# Altium integrated library Maxim Digital Potentiometers.IntLib: 1045 symbols (part 18 of 42)
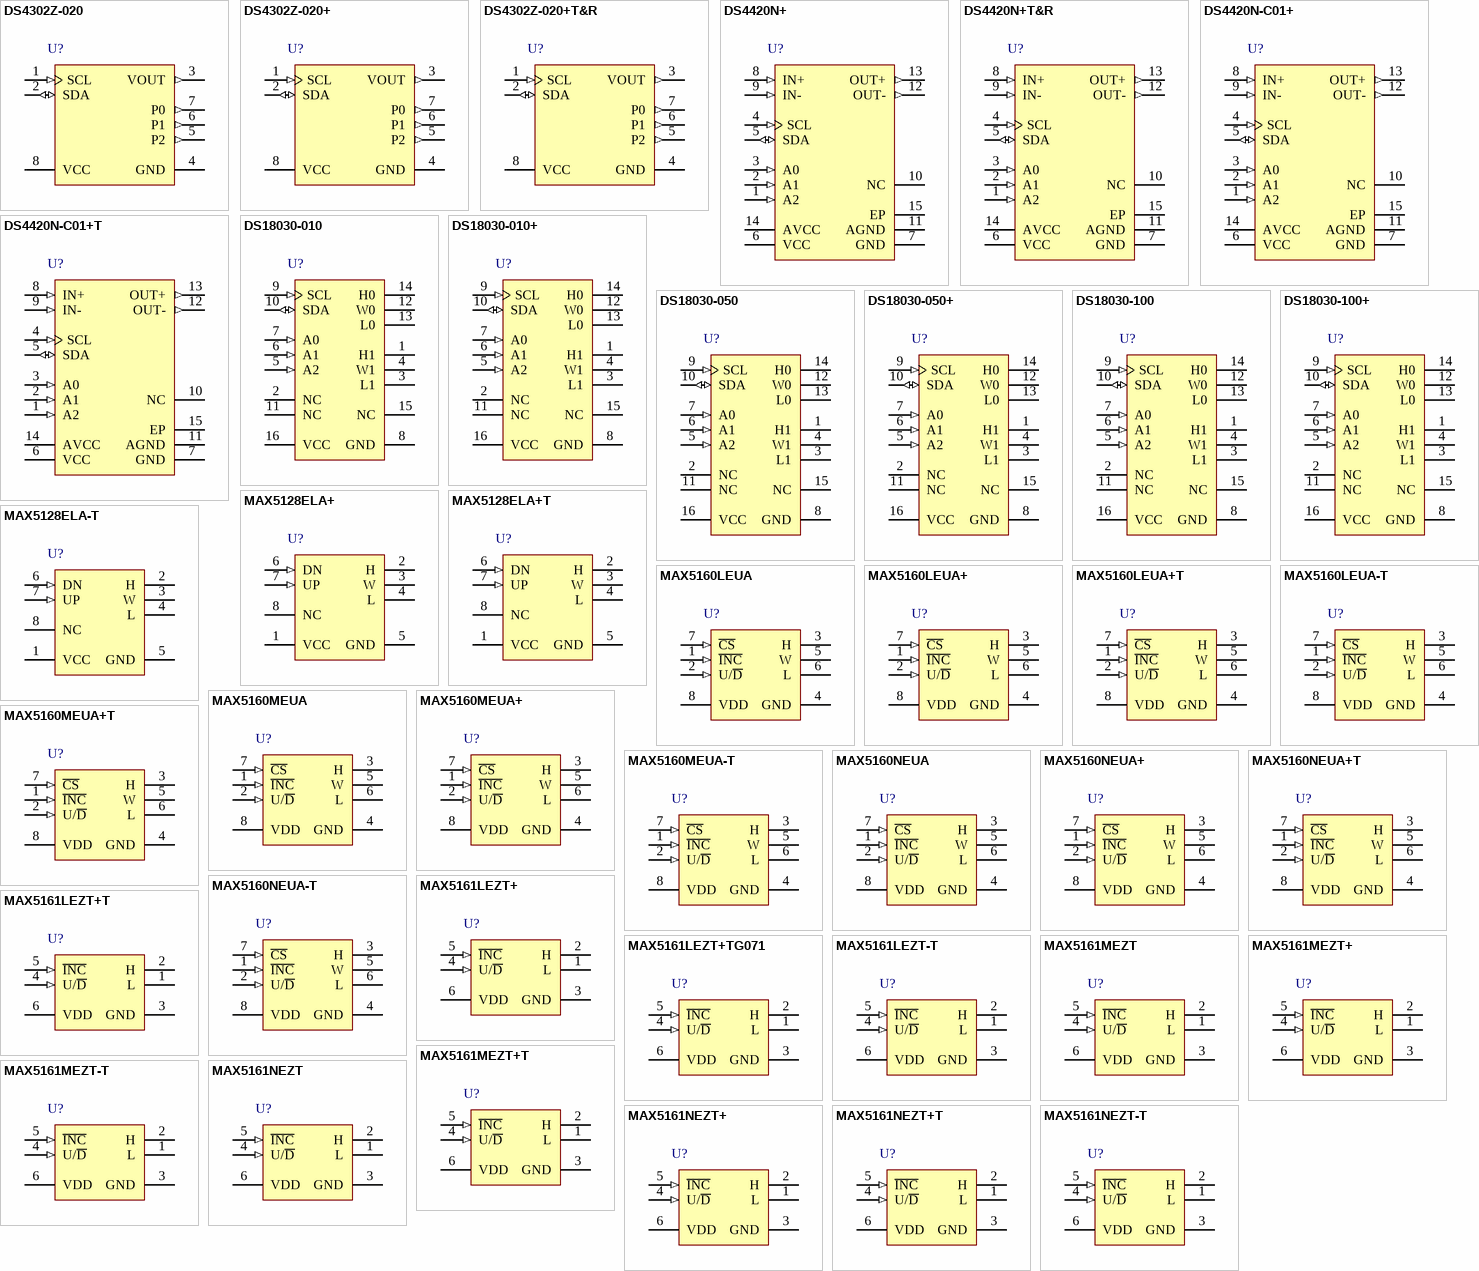
[diagram p46: symbols DS4302Z-020 to MAX5161NEZT-T]

## MAX5160NEUA
designator U?
Low-Power Digital Potentiometer with 3-Wire Serial Control Interface, Volatile, Linear Taper, 32 Steps, -40 to 85 degC, 8-pin uMAX (U8-1); PartNumber: MAX5160NEUA; DatasheetVersion: Rev. 2A; PackageVersion: Rev. L, 08/2009; PackageReference: U8-1; PackageDescription: 8-Pin Micro-MAX, Thin Shrink Small-Outline (U8-1), Body 3 x 3 mm, Pitch 0.65mm; Supplier 1: Mouser; Supplier Part Number 1: N/A; Control Interface: 3-Wire Serial; Mounting Technology: Surface Mount; Code_JEDEC: MO-187; ComponentLink1Description: Manufacturer URL; ComponentLink1URL: http://www.maximintegrated.com/; ComponentLink2Description: Datasheet; ComponentLink2URL: http://datasheets.maximintegrated.com/en/ds/MAX5160-MAX5161.pdf; ComponentLink3Description: Package Specification; ComponentLink3URL: http://pdfserv.maximintegrated.com/package_dwgs/21-0036.PDF
footprint MAXM-U8-1_N (SOP, 8-Leads, Body 3x3mm, Pitch 0.65mm, IPC Medium Density)
footprint MAXM-U8-1_L (SOP, 8-Leads, Body 3x3mm, Pitch 0.65mm, IPC High Density)
footprint MAXM-U8-1_M (SOP, 8-Leads, Body 3x3mm, Pitch 0.65mm, IPC Low Density)
pins: 1 ~{INC} (in) "Wiper Increment Control Input. With C\S\ low, a high-to-low transition increments (U/D\ high) or decrements (U/D\ low) the wiper position.", 2 U/~{D} (in) "Up/Down Control Input. With C\S\ low, a high-to-low I\N\C\ transition increments (U/D\ high) or decrements (U/D\ low) the wiper position.", 3 H "High Terminal of Resistor", 4 GND (power) "Ground", 5 W "Wiper Terminal of Resistor", 6 L "Low Terminal of Resistor.", 7 ~{CS} (in) "Chip-Select Input. Drive low to change wiper position through I\N\C\ and U/D\.", 8 VDD (power) "Power Supply."

## MAX5160NEUA+
designator U?
Low-Power Digital Potentiometer with 3-Wire Serial Control Interface, Volatile, Linear Taper, 32 Steps, -40 to 85 degC, 8-pin uMAX (U8+1), Pb-Free; PartNumber: MAX5160NEUA+; DatasheetVersion: Rev. 2A; PackageVersion: Rev. L, 08/2009; PackageReference: U8+1; PackageDescription: 8-Pin Micro-MAX, Thin Shrink Small-Outline (U8+1), Body 3 x 3 mm, Pitch 0.65 mm; Supplier 1: Digi-Key; Supplier Part Number 1: MAX5160NEUA+-ND; Supplier 2: Mouser; Supplier Part Number 2: 700-MAX5160NEUA; Control Interface: 3-Wire Serial; Mounting Technology: Surface Mount; Code_JEDEC: MO-187; ComponentLink1Description: Manufacturer URL; ComponentLink1URL: http://www.maximintegrated.com/; ComponentLink2Description: Datasheet; ComponentLink2URL: http://datasheets.maximintegrated.com/en/ds/MAX5160-MAX5161.pdf; ComponentLink3Description: Package Specification; ComponentLink3URL: http://pdfserv.maximintegrated.com/package_dwgs/21-0036.PDF
footprint MAXM-U8+1_N (SOP, 8-Leads, Body 3x3mm, Pitch 0.65mm, IPC Medium Density)
footprint MAXM-U8+1_L (SOP, 8-Leads, Body 3x3mm, Pitch 0.65mm, IPC High Density)
footprint MAXM-U8+1_M (SOP, 8-Leads, Body 3x3mm, Pitch 0.65mm, IPC Low Density)
pins: 1 ~{INC} (in) "Wiper Increment Control Input. With C\S\ low, a high-to-low transition increments (U/D\ high) or decrements (U/D\ low) the wiper position.", 2 U/~{D} (in) "Up/Down Control Input. With C\S\ low, a high-to-low I\N\C\ transition increments (U/D\ high) or decrements (U/D\ low) the wiper position.", 3 H "High Terminal of Resistor", 4 GND (power) "Ground", 5 W "Wiper Terminal of Resistor", 6 L "Low Terminal of Resistor.", 7 ~{CS} (in) "Chip-Select Input. Drive low to change wiper position through I\N\C\ and U/D\.", 8 VDD (power) "Power Supply."

## MAX5160NEUA+T
designator U?
Low-Power Digital Potentiometer with 3-Wire Serial Control Interface, Volatile, Linear Taper, 32 Steps, -40 to 85 degC, 8-pin uMAX (U8+1), Pb-Free, Tape and Reel; PartNumber: MAX5160NEUA+T; DatasheetVersion: Rev. 2A; PackageVersion: Rev. L, 08/2009; PackageReference: U8+1; PackageDescription: 8-Pin Micro-MAX, Thin Shrink Small-Outline (U8+1), Body 3 x 3 mm, Pitch 0.65 mm; Supplier 1: Digi-Key; Supplier Part Number 1: MAX5160NEUA+T-ND; Supplier 2: Mouser; Supplier Part Number 2: 700-MAX5160NEUAT; Control Interface: 3-Wire Serial; Mounting Technology: Surface Mount; Code_JEDEC: MO-187; ComponentLink1Description: Manufacturer URL; ComponentLink1URL: http://www.maximintegrated.com/; ComponentLink2Description: Datasheet; ComponentLink2URL: http://datasheets.maximintegrated.com/en/ds/MAX5160-MAX5161.pdf; ComponentLink3Description: Package Specification; ComponentLink3URL: http://pdfserv.maximintegrated.com/package_dwgs/21-0036.PDF
footprint MAXM-U8+1_N (SOP, 8-Leads, Body 3x3mm, Pitch 0.65mm, IPC Medium Density)
footprint MAXM-U8+1_L (SOP, 8-Leads, Body 3x3mm, Pitch 0.65mm, IPC High Density)
footprint MAXM-U8+1_M (SOP, 8-Leads, Body 3x3mm, Pitch 0.65mm, IPC Low Density)
pins: 1 ~{INC} (in) "Wiper Increment Control Input. With C\S\ low, a high-to-low transition increments (U/D\ high) or decrements (U/D\ low) the wiper position.", 2 U/~{D} (in) "Up/Down Control Input. With C\S\ low, a high-to-low I\N\C\ transition increments (U/D\ high) or decrements (U/D\ low) the wiper position.", 3 H "High Terminal of Resistor", 4 GND (power) "Ground", 5 W "Wiper Terminal of Resistor", 6 L "Low Terminal of Resistor.", 7 ~{CS} (in) "Chip-Select Input. Drive low to change wiper position through I\N\C\ and U/D\.", 8 VDD (power) "Power Supply."

## MAX5160NEUA-T
designator U?
Low-Power Digital Potentiometer with 3-Wire Serial Control Interface, Volatile, Linear Taper, 32 Steps, -40 to 85 degC, 8-pin uMAX (U8-1), Tape and Reel; PartNumber: MAX5160NEUA-T; DatasheetVersion: Rev. 2A; PackageVersion: Rev. L, 08/2009; PackageReference: U8-1; PackageDescription: 8-Pin Micro-MAX, Thin Shrink Small-Outline (U8-1), Body 3 x 3 mm, Pitch 0.65mm; Supplier 1: Mouser; Supplier Part Number 1: N/A; Control Interface: 3-Wire Serial; Mounting Technology: Surface Mount; Code_JEDEC: MO-187; ComponentLink1Description: Manufacturer URL; ComponentLink1URL: http://www.maximintegrated.com/; ComponentLink2Description: Datasheet; ComponentLink2URL: http://datasheets.maximintegrated.com/en/ds/MAX5160-MAX5161.pdf; ComponentLink3Description: Package Specification; ComponentLink3URL: http://pdfserv.maximintegrated.com/package_dwgs/21-0036.PDF
footprint MAXM-U8-1_N (SOP, 8-Leads, Body 3x3mm, Pitch 0.65mm, IPC Medium Density)
footprint MAXM-U8-1_L (SOP, 8-Leads, Body 3x3mm, Pitch 0.65mm, IPC High Density)
footprint MAXM-U8-1_M (SOP, 8-Leads, Body 3x3mm, Pitch 0.65mm, IPC Low Density)
pins: 1 ~{INC} (in) "Wiper Increment Control Input. With C\S\ low, a high-to-low transition increments (U/D\ high) or decrements (U/D\ low) the wiper position.", 2 U/~{D} (in) "Up/Down Control Input. With C\S\ low, a high-to-low I\N\C\ transition increments (U/D\ high) or decrements (U/D\ low) the wiper position.", 3 H "High Terminal of Resistor", 4 GND (power) "Ground", 5 W "Wiper Terminal of Resistor", 6 L "Low Terminal of Resistor.", 7 ~{CS} (in) "Chip-Select Input. Drive low to change wiper position through I\N\C\ and U/D\.", 8 VDD (power) "Power Supply."

## MAX5161LEZT+
designator U?
Low-Power, Digital Potentiometer with 3-Wire Serial Control Interface, Volatile, Linear Taper, 32 Steps, -40 to 85 degC, 6-pin TSOT (Z6+2), Pb-Free; PartNumber: MAX5161LEZT+; DatasheetVersion: Rev. 2A; PackageVersion: Rev. D, 05/2011; PackageReference: Z6+2; PackageDescription: 6-Pin Thin Small-Outline Transistor (Z6+2), Body 2.9 x 1.6 mm, Pitch 0.95 mm; Supplier 1: Mouser; Supplier Part Number 1: N/A; Control Interface: 3-Wire Serial; Mounting Technology: Surface Mount; Code_JEDEC: MO-193; ComponentLink1Description: Manufacturer URL; ComponentLink1URL: http://www.maximintegrated.com/; ComponentLink2Description: Datasheet; ComponentLink2URL: http://datasheets.maximintegrated.com/en/ds/MAX5160-MAX5161.pdf; ComponentLink3Description: Package Specification; ComponentLink3URL: http://pdfserv.maximintegrated.com/package_dwgs/21-0114.PDF
footprint MAXM-Z6+2_N (SOT23, 6-Leads, Body 2.9x1.6mm, Pitch 0.95mm, IPC Medium Density)
footprint MAXM-Z6+2_L (SOT23, 6-Leads, Body 2.9x1.6mm, Pitch 0.95mm, IPC High Density)
footprint MAXM-Z6+2_M (SOT23, 6-Leads, Body 2.9x1.6mm, Pitch 0.95mm, IPC Low Density)
pins: 1 L "Low Terminal of Resistor", 2 H "High Terminal of Resistor", 3 GND (power) "Ground", 4 U/~{D} (in) "Up/Down Control Input. With C\S\ low, a high-to-low I\N\C\ transition increments (U/D\ high) or decrements (U/D\ low) the wiper position.", 5 ~{INC} (in) "Wiper Increment Control Input. With C\S\ low, a high-to-low transition increments (U/D\ high) or decrements (U/D\ low) the wiper position.", 6 VDD (power) "Power Supply"

## MAX5161LEZT+T
designator U?
Low-Power, Digital Potentiometer with 3-Wire Serial Control Interface, Volatile, Linear Taper, 32 Steps, -40 to 85 degC, 6-pin TSOT (Z6+2), Pb-Free, Tape and Reel; PartNumber: MAX5161LEZT+T; DatasheetVersion: Rev. 2A; PackageVersion: Rev. D, 05/2011; PackageReference: Z6+2; PackageDescription: 6-Pin Thin Small-Outline Transistor (Z6+2), Body 2.9 x 1.6 mm, Pitch 0.95 mm; Supplier 1: Digi-Key; Supplier Part Number 1: MAX5161LEZT+TTR-ND; Supplier 2: Digi-Key; Supplier Part Number 2: MAX5161LEZT+TCT-ND; Supplier 3: Digi-Key; Supplier Part Number 3: MAX5161LEZT+TDKR-ND; Supplier 4: Mouser; Supplier Part Number 4: 700-MAX5161LEZTT; Control Interface: 3-Wire Serial; Mounting Technology: Surface Mount; Code_JEDEC: MO-193; ComponentLink1Description: Manufacturer URL; ComponentLink1URL: http://www.maximintegrated.com/; ComponentLink2Description: Datasheet; ComponentLink2URL: http://datasheets.maximintegrated.com/en/ds/MAX5160-MAX5161.pdf; ComponentLink3Description: Package Specification; ComponentLink3URL: http://pdfserv.maximintegrated.com/package_dwgs/21-0114.PDF
footprint MAXM-Z6+2_N (SOT23, 6-Leads, Body 2.9x1.6mm, Pitch 0.95mm, IPC Medium Density)
footprint MAXM-Z6+2_L (SOT23, 6-Leads, Body 2.9x1.6mm, Pitch 0.95mm, IPC High Density)
footprint MAXM-Z6+2_M (SOT23, 6-Leads, Body 2.9x1.6mm, Pitch 0.95mm, IPC Low Density)
pins: 1 L "Low Terminal of Resistor", 2 H "High Terminal of Resistor", 3 GND (power) "Ground", 4 U/~{D} (in) "Up/Down Control Input. With C\S\ low, a high-to-low I\N\C\ transition increments (U/D\ high) or decrements (U/D\ low) the wiper position.", 5 ~{INC} (in) "Wiper Increment Control Input. With C\S\ low, a high-to-low transition increments (U/D\ high) or decrements (U/D\ low) the wiper position.", 6 VDD (power) "Power Supply"

## MAX5161LEZT+TG071
designator U?
Low-Power, Digital Potentiometer with 3-Wire Serial Control Interface, Volatile, Linear Taper, 32 Steps, -40 to 85 degC, 6-pin TSOT (Z6+2), Pb-Free, Tape and Reel; PartNumber: MAX5161LEZT+TG071; DatasheetVersion: Rev. 2A; PackageVersion: Rev. D, 05/2011; PackageReference: Z6+2; PackageDescription: 6-Pin Thin Small-Outline Transistor (Z6+2), Body 2.9 x 1.6 mm, Pitch 0.95 mm; Supplier 1: Digi-Key; Supplier Part Number 1: MAX5161LEZT+TG071-ND; Supplier 2: Mouser; Supplier Part Number 2: 700-5161LEZT+TG071; Control Interface: 3-Wire Serial; Mounting Technology: Surface Mount; Code_JEDEC: MO-193; ComponentLink1Description: Manufacturer URL; ComponentLink1URL: http://www.maximintegrated.com/; ComponentLink2Description: Datasheet; ComponentLink2URL: http://datasheets.maximintegrated.com/en/ds/MAX5160-MAX5161.pdf; ComponentLink3Description: Package Specification; ComponentLink3URL: http://pdfserv.maximintegrated.com/package_dwgs/21-0114.PDF
footprint MAXM-Z6+2_N (SOT23, 6-Leads, Body 2.9x1.6mm, Pitch 0.95mm, IPC Medium Density)
footprint MAXM-Z6+2_L (SOT23, 6-Leads, Body 2.9x1.6mm, Pitch 0.95mm, IPC High Density)
footprint MAXM-Z6+2_M (SOT23, 6-Leads, Body 2.9x1.6mm, Pitch 0.95mm, IPC Low Density)
pins: 1 L "Low Terminal of Resistor", 2 H "High Terminal of Resistor", 3 GND (power) "Ground", 4 U/~{D} (in) "Up/Down Control Input. With C\S\ low, a high-to-low I\N\C\ transition increments (U/D\ high) or decrements (U/D\ low) the wiper position.", 5 ~{INC} (in) "Wiper Increment Control Input. With C\S\ low, a high-to-low transition increments (U/D\ high) or decrements (U/D\ low) the wiper position.", 6 VDD (power) "Power Supply"

## MAX5161LEZT-T
designator U?
Low-Power, Digital Potentiometer with 3-Wire Serial Control Interface, Volatile, Linear Taper, 32 Steps, -40 to 85 degC, 6-pin TSOT (Z6-2), Tape and Reel; PartNumber: MAX5161LEZT-T; DatasheetVersion: Rev. 2A; PackageVersion: Rev. D, 05/2011; PackageReference: Z6-2; PackageDescription: 6-Pin Thin Small-Outline Transistor (Z6-2), Body 2.9 x 1.6 mm, Pitch 0.95 mm; Supplier 1: Mouser; Supplier Part Number 1: N/A; Control Interface: 3-Wire Serial; Mounting Technology: Surface Mount; Code_JEDEC: MO-193; ComponentLink1Description: Manufacturer URL; ComponentLink1URL: http://www.maximintegrated.com/; ComponentLink2Description: Datasheet; ComponentLink2URL: http://datasheets.maximintegrated.com/en/ds/MAX5160-MAX5161.pdf; ComponentLink3Description: Package Specification; ComponentLink3URL: http://pdfserv.maximintegrated.com/package_dwgs/21-0114.PDF
footprint MAXM-Z6-2_N (SOT23, 6-Leads, Body 2.9x1.6mm, Pitch 0.95mm, IPC Medium Density)
footprint MAXM-Z6-2_L (SOT23, 6-Leads, Body 2.9x1.6mm, Pitch 0.95mm, IPC High Density)
footprint MAXM-Z6-2_M (SOT23, 6-Leads, Body 2.9x1.6mm, Pitch 0.95mm, IPC Low Density)
pins: 1 L "Low Terminal of Resistor", 2 H "High Terminal of Resistor", 3 GND (power) "Ground", 4 U/~{D} (in) "Up/Down Control Input. With C\S\ low, a high-to-low I\N\C\ transition increments (U/D\ high) or decrements (U/D\ low) the wiper position.", 5 ~{INC} (in) "Wiper Increment Control Input. With C\S\ low, a high-to-low transition increments (U/D\ high) or decrements (U/D\ low) the wiper position.", 6 VDD (power) "Power Supply"

## MAX5161MEZT
designator U?
Low-Power, Digital Potentiometer with 3-Wire Serial Control Interface, Volatile, Linear Taper, 32 Steps, -40 to 85 degC, 6-pin TSOT (Z6-2); PartNumber: MAX5161MEZT; DatasheetVersion: Rev. 2A; PackageVersion: Rev. D, 05/2011; PackageReference: Z6-2; PackageDescription: 6-Pin Thin Small-Outline Transistor (Z6-2), Body 2.9 x 1.6 mm, Pitch 0.95 mm; Supplier 1: Mouser; Supplier Part Number 1: N/A; Control Interface: 3-Wire Serial; Mounting Technology: Surface Mount; Code_JEDEC: MO-193; ComponentLink1Description: Manufacturer URL; ComponentLink1URL: http://www.maximintegrated.com/; ComponentLink2Description: Datasheet; ComponentLink2URL: http://datasheets.maximintegrated.com/en/ds/MAX5160-MAX5161.pdf; ComponentLink3Description: Package Specification; ComponentLink3URL: http://pdfserv.maximintegrated.com/package_dwgs/21-0114.PDF
footprint MAXM-Z6-2_N (SOT23, 6-Leads, Body 2.9x1.6mm, Pitch 0.95mm, IPC Medium Density)
footprint MAXM-Z6-2_L (SOT23, 6-Leads, Body 2.9x1.6mm, Pitch 0.95mm, IPC High Density)
footprint MAXM-Z6-2_M (SOT23, 6-Leads, Body 2.9x1.6mm, Pitch 0.95mm, IPC Low Density)
pins: 1 L "Low Terminal of Resistor", 2 H "High Terminal of Resistor", 3 GND (power) "Ground", 4 U/~{D} (in) "Up/Down Control Input. With C\S\ low, a high-to-low I\N\C\ transition increments (U/D\ high) or decrements (U/D\ low) the wiper position.", 5 ~{INC} (in) "Wiper Increment Control Input. With C\S\ low, a high-to-low transition increments (U/D\ high) or decrements (U/D\ low) the wiper position.", 6 VDD (power) "Power Supply"

## MAX5161MEZT+
designator U?
Low-Power, Digital Potentiometer with 3-Wire Serial Control Interface, Volatile, Linear Taper, 32 Steps, -40 to 85 degC, 6-pin TSOT (Z6+2), Pb-Free,; PartNumber: MAX5161MEZT+; DatasheetVersion: Rev. 2A; PackageVersion: Rev. D, 05/2011; PackageReference: Z6+2; PackageDescription: 6-Pin Thin Small-Outline Transistor (Z6+2), Body 2.9 x 1.6 mm, Pitch 0.95 mm; Control Interface: 3-Wire Serial; Mounting Technology: Surface Mount; Code_JEDEC: MO-193; ComponentLink1Description: Manufacturer URL; ComponentLink1URL: http://www.maximintegrated.com/; ComponentLink2Description: Datasheet; ComponentLink2URL: http://datasheets.maximintegrated.com/en/ds/MAX5160-MAX5161.pdf; ComponentLink3Description: Package Specification; ComponentLink3URL: http://pdfserv.maximintegrated.com/package_dwgs/21-0114.PDF
footprint MAXM-Z6+2_N (SOT23, 6-Leads, Body 2.9x1.6mm, Pitch 0.95mm, IPC Medium Density)
footprint MAXM-Z6+2_L (SOT23, 6-Leads, Body 2.9x1.6mm, Pitch 0.95mm, IPC High Density)
footprint MAXM-Z6+2_M (SOT23, 6-Leads, Body 2.9x1.6mm, Pitch 0.95mm, IPC Low Density)
pins: 1 L "Low Terminal of Resistor", 2 H "High Terminal of Resistor", 3 GND (power) "Ground", 4 U/~{D} (in) "Up/Down Control Input. With C\S\ low, a high-to-low I\N\C\ transition increments (U/D\ high) or decrements (U/D\ low) the wiper position.", 5 ~{INC} (in) "Wiper Increment Control Input. With C\S\ low, a high-to-low transition increments (U/D\ high) or decrements (U/D\ low) the wiper position.", 6 VDD (power) "Power Supply"

## MAX5161MEZT+T
designator U?
Low-Power, Digital Potentiometer with 3-Wire Serial Control Interface, Volatile, Linear Taper, 32 Steps, -40 to 85 degC, 6-pin TSOT (Z6+2), Pb-Free, Tape and Reel; PartNumber: MAX5161MEZT+T; DatasheetVersion: Rev. 2A; PackageVersion: Rev. D, 05/2011; PackageReference: Z6+2; PackageDescription: 6-Pin Thin Small-Outline Transistor (Z6+2), Body 2.9 x 1.6 mm, Pitch 0.95 mm; Supplier 1: Digi-Key; Supplier Part Number 1: MAX5161MEZT+TTR-ND; Supplier 2: Digi-Key; Supplier Part Number 2: MAX5161MEZT+TCT-ND; Supplier 3: Digi-Key; Supplier Part Number 3: MAX5161MEZT+TDKR-ND; Supplier 4: Mouser; Supplier Part Number 4: 700-MAX5161MEZTT; Control Interface: 3-Wire Serial; Mounting Technology: Surface Mount; Code_JEDEC: MO-193; ComponentLink1Description: Manufacturer URL; ComponentLink1URL: http://www.maximintegrated.com/; ComponentLink2Description: Datasheet; ComponentLink2URL: http://datasheets.maximintegrated.com/en/ds/MAX5160-MAX5161.pdf; ComponentLink3Description: Package Specification; ComponentLink3URL: http://pdfserv.maximintegrated.com/package_dwgs/21-0114.PDF
footprint MAXM-Z6+2_N (SOT23, 6-Leads, Body 2.9x1.6mm, Pitch 0.95mm, IPC Medium Density)
footprint MAXM-Z6+2_L (SOT23, 6-Leads, Body 2.9x1.6mm, Pitch 0.95mm, IPC High Density)
footprint MAXM-Z6+2_M (SOT23, 6-Leads, Body 2.9x1.6mm, Pitch 0.95mm, IPC Low Density)
pins: 1 L "Low Terminal of Resistor", 2 H "High Terminal of Resistor", 3 GND (power) "Ground", 4 U/~{D} (in) "Up/Down Control Input. With C\S\ low, a high-to-low I\N\C\ transition increments (U/D\ high) or decrements (U/D\ low) the wiper position.", 5 ~{INC} (in) "Wiper Increment Control Input. With C\S\ low, a high-to-low transition increments (U/D\ high) or decrements (U/D\ low) the wiper position.", 6 VDD (power) "Power Supply"

## MAX5161MEZT-T
designator U?
Low-Power, Digital Potentiometer with 3-Wire Serial Control Interface, Volatile, Linear Taper, 32 Steps, -40 to 85 degC, 6-pin TSOT (Z6-2), Tape and Reel; PartNumber: MAX5161MEZT-T; DatasheetVersion: Rev. 2A; PackageVersion: Rev. D, 05/2011; PackageReference: Z6-2; PackageDescription: 6-Pin Thin Small-Outline Transistor (Z6-2), Body 2.9 x 1.6 mm, Pitch 0.95 mm; Supplier 1: Mouser; Supplier Part Number 1: N/A; Control Interface: 3-Wire Serial; Mounting Technology: Surface Mount; Code_JEDEC: MO-193; ComponentLink1Description: Manufacturer URL; ComponentLink1URL: http://www.maximintegrated.com/; ComponentLink2Description: Datasheet; ComponentLink2URL: http://datasheets.maximintegrated.com/en/ds/MAX5160-MAX5161.pdf; ComponentLink3Description: Package Specification; ComponentLink3URL: http://pdfserv.maximintegrated.com/package_dwgs/21-0114.PDF
footprint MAXM-Z6-2_N (SOT23, 6-Leads, Body 2.9x1.6mm, Pitch 0.95mm, IPC Medium Density)
footprint MAXM-Z6-2_L (SOT23, 6-Leads, Body 2.9x1.6mm, Pitch 0.95mm, IPC High Density)
footprint MAXM-Z6-2_M (SOT23, 6-Leads, Body 2.9x1.6mm, Pitch 0.95mm, IPC Low Density)
pins: 1 L "Low Terminal of Resistor", 2 H "High Terminal of Resistor", 3 GND (power) "Ground", 4 U/~{D} (in) "Up/Down Control Input. With C\S\ low, a high-to-low I\N\C\ transition increments (U/D\ high) or decrements (U/D\ low) the wiper position.", 5 ~{INC} (in) "Wiper Increment Control Input. With C\S\ low, a high-to-low transition increments (U/D\ high) or decrements (U/D\ low) the wiper position.", 6 VDD (power) "Power Supply"

## MAX5161NEZT
designator U?
Low-Power, Digital Potentiometer with 3-Wire Serial Control Interface, Volatile, Linear Taper, 32 Steps, -40 to 85 degC, 6-pin TSOT (Z6-2); PartNumber: MAX5161NEZT; DatasheetVersion: Rev. 2A; PackageVersion: Rev. D, 05/2011; PackageReference: Z6-2; PackageDescription: 6-Pin Thin Small-Outline Transistor (Z6-2), Body 2.9 x 1.6 mm, Pitch 0.95 mm; Supplier 1: Mouser; Supplier Part Number 1: N/A; Control Interface: 3-Wire Serial; Mounting Technology: Surface Mount; Code_JEDEC: MO-193; ComponentLink1Description: Manufacturer URL; ComponentLink1URL: http://www.maximintegrated.com/; ComponentLink2Description: Datasheet; ComponentLink2URL: http://datasheets.maximintegrated.com/en/ds/MAX5160-MAX5161.pdf; ComponentLink3Description: Package Specification; ComponentLink3URL: http://pdfserv.maximintegrated.com/package_dwgs/21-0114.PDF
footprint MAXM-Z6-2_N (SOT23, 6-Leads, Body 2.9x1.6mm, Pitch 0.95mm, IPC Medium Density)
footprint MAXM-Z6-2_L (SOT23, 6-Leads, Body 2.9x1.6mm, Pitch 0.95mm, IPC High Density)
footprint MAXM-Z6-2_M (SOT23, 6-Leads, Body 2.9x1.6mm, Pitch 0.95mm, IPC Low Density)
pins: 1 L "Low Terminal of Resistor", 2 H "High Terminal of Resistor", 3 GND (power) "Ground", 4 U/~{D} (in) "Up/Down Control Input. With C\S\ low, a high-to-low I\N\C\ transition increments (U/D\ high) or decrements (U/D\ low) the wiper position.", 5 ~{INC} (in) "Wiper Increment Control Input. With C\S\ low, a high-to-low transition increments (U/D\ high) or decrements (U/D\ low) the wiper position.", 6 VDD (power) "Power Supply"

## MAX5161NEZT+
designator U?
Low-Power, Digital Potentiometer with 3-Wire Serial Control Interface, Volatile, Linear Taper, 32 Steps, -40 to 85 degC, 6-pin TSOT (Z6+2), Pb-Free; PartNumber: MAX5161NEZT+; DatasheetVersion: Rev. 2A; PackageVersion: Rev. D, 05/2011; PackageReference: Z6+2; PackageDescription: 6-Pin Thin Small-Outline Transistor (Z6+2), Body 2.9 x 1.6 mm, Pitch 0.95 mm; Supplier 1: Mouser; Supplier Part Number 1: N/A; Control Interface: 3-Wire Serial; Mounting Technology: Surface Mount; Code_JEDEC: MO-193; ComponentLink1Description: Manufacturer URL; ComponentLink1URL: http://www.maximintegrated.com/; ComponentLink2Description: Datasheet; ComponentLink2URL: http://datasheets.maximintegrated.com/en/ds/MAX5160-MAX5161.pdf; ComponentLink3Description: Package Specification; ComponentLink3URL: http://pdfserv.maximintegrated.com/package_dwgs/21-0114.PDF
footprint MAXM-Z6+2_N (SOT23, 6-Leads, Body 2.9x1.6mm, Pitch 0.95mm, IPC Medium Density)
footprint MAXM-Z6+2_L (SOT23, 6-Leads, Body 2.9x1.6mm, Pitch 0.95mm, IPC High Density)
footprint MAXM-Z6+2_M (SOT23, 6-Leads, Body 2.9x1.6mm, Pitch 0.95mm, IPC Low Density)
pins: 1 L "Low Terminal of Resistor", 2 H "High Terminal of Resistor", 3 GND (power) "Ground", 4 U/~{D} (in) "Up/Down Control Input. With C\S\ low, a high-to-low I\N\C\ transition increments (U/D\ high) or decrements (U/D\ low) the wiper position.", 5 ~{INC} (in) "Wiper Increment Control Input. With C\S\ low, a high-to-low transition increments (U/D\ high) or decrements (U/D\ low) the wiper position.", 6 VDD (power) "Power Supply"

## MAX5161NEZT+T
designator U?
Low-Power, Digital Potentiometer with 3-Wire Serial Control Interface, Volatile, Linear Taper, 32 Steps, -40 to 85 degC, 6-pin TSOT (Z6+2), Pb-Free,Tape and Reel; PartNumber: MAX5161NEZT+T; DatasheetVersion: Rev. 2A; PackageVersion: Rev. D, 05/2011; PackageReference: Z6+2; PackageDescription: 6-Pin Thin Small-Outline Transistor (Z6+2), Body 2.9 x 1.6 mm, Pitch 0.95 mm; Supplier 1: Digi-Key; Supplier Part Number 1: MAX5161NEZT+TTR-ND; Supplier 2: Digi-Key; Supplier Part Number 2: MAX5161NEZT+TCT-ND; Supplier 3: Digi-Key; Supplier Part Number 3: MAX5161NEZT+TDKR-ND; Supplier 4: Mouser; Supplier Part Number 4: 700-MAX5161NEZTT; Control Interface: 3-Wire Serial; Mounting Technology: Surface Mount; Code_JEDEC: MO-193; ComponentLink1Description: Manufacturer URL; ComponentLink1URL: http://www.maximintegrated.com/; ComponentLink2Description: Datasheet; ComponentLink2URL: http://datasheets.maximintegrated.com/en/ds/MAX5160-MAX5161.pdf; ComponentLink3Description: Package Specification; ComponentLink3URL: http://pdfserv.maximintegrated.com/package_dwgs/21-0114.PDF
footprint MAXM-Z6+2_N (SOT23, 6-Leads, Body 2.9x1.6mm, Pitch 0.95mm, IPC Medium Density)
footprint MAXM-Z6+2_L (SOT23, 6-Leads, Body 2.9x1.6mm, Pitch 0.95mm, IPC High Density)
footprint MAXM-Z6+2_M (SOT23, 6-Leads, Body 2.9x1.6mm, Pitch 0.95mm, IPC Low Density)
pins: 1 L "Low Terminal of Resistor", 2 H "High Terminal of Resistor", 3 GND (power) "Ground", 4 U/~{D} (in) "Up/Down Control Input. With C\S\ low, a high-to-low I\N\C\ transition increments (U/D\ high) or decrements (U/D\ low) the wiper position.", 5 ~{INC} (in) "Wiper Increment Control Input. With C\S\ low, a high-to-low transition increments (U/D\ high) or decrements (U/D\ low) the wiper position.", 6 VDD (power) "Power Supply"

## MAX5161NEZT-T
designator U?
Low-Power, Digital Potentiometer with 3-Wire Serial Control Interface, Volatile, Linear Taper, 32 Steps, -40 to 85 degC, 6-pin TSOT (Z6-2), Tape and Reel; PartNumber: MAX5161NEZT-T; DatasheetVersion: Rev. 2A; PackageVersion: Rev. D, 05/2011; PackageReference: Z6-2; PackageDescription: 6-Pin Thin Small-Outline Transistor (Z6-2), Body 2.9 x 1.6 mm, Pitch 0.95 mm; Supplier 1: Mouser; Supplier Part Number 1: N/A; Control Interface: 3-Wire Serial; Mounting Technology: Surface Mount; Code_JEDEC: MO-193; ComponentLink1Description: Manufacturer URL; ComponentLink1URL: http://www.maximintegrated.com/; ComponentLink2Description: Datasheet; ComponentLink2URL: http://datasheets.maximintegrated.com/en/ds/MAX5160-MAX5161.pdf; ComponentLink3Description: Package Specification; ComponentLink3URL: http://pdfserv.maximintegrated.com/package_dwgs/21-0114.PDF
footprint MAXM-Z6-2_N (SOT23, 6-Leads, Body 2.9x1.6mm, Pitch 0.95mm, IPC Medium Density)
footprint MAXM-Z6-2_L (SOT23, 6-Leads, Body 2.9x1.6mm, Pitch 0.95mm, IPC High Density)
footprint MAXM-Z6-2_M (SOT23, 6-Leads, Body 2.9x1.6mm, Pitch 0.95mm, IPC Low Density)
pins: 1 L "Low Terminal of Resistor", 2 H "High Terminal of Resistor", 3 GND (power) "Ground", 4 U/~{D} (in) "Up/Down Control Input. With C\S\ low, a high-to-low I\N\C\ transition increments (U/D\ high) or decrements (U/D\ low) the wiper position.", 5 ~{INC} (in) "Wiper Increment Control Input. With C\S\ low, a high-to-low transition increments (U/D\ high) or decrements (U/D\ low) the wiper position.", 6 VDD (power) "Power Supply"

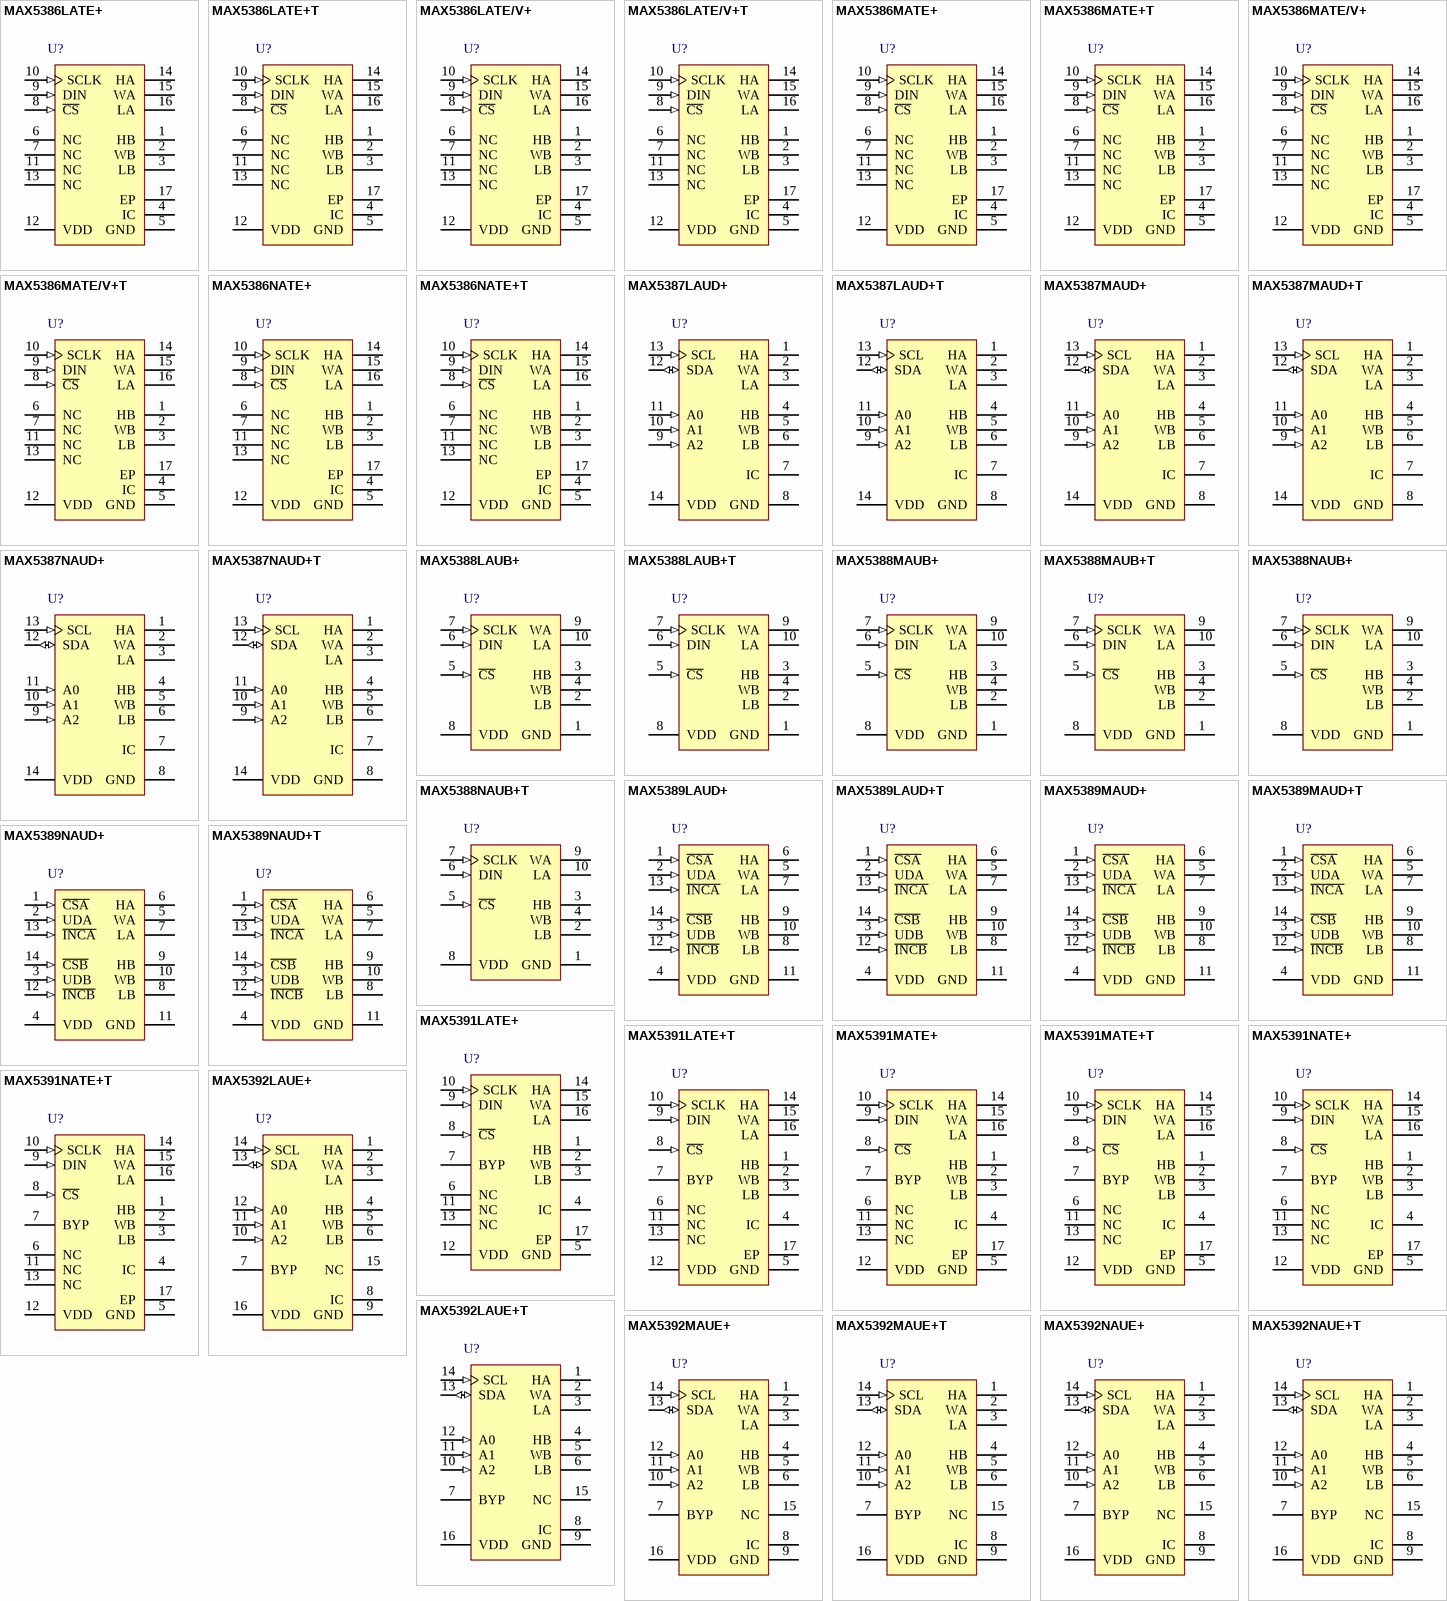
[diagram p13: symbols MAX5386LATE+ to MAX5392NAUE+T]

## MAX5386LATE+
designator U?
Dual Low-Voltage Digital Potentiometer with 3-Wire Serial SPI Control Interface, Volatile, Linear Taper, 256 Steps, -40 to 125 degC, 16-pin TQFN (T1633+5), Pb-Free; PartNumber: MAX5386LATE+; Industry Qualified: Automotive - AECQ100, Automotive - General; DatasheetVersion: Rev. 2; PackageVersion: Rev. L, 04/2012; PackageReference: T1633+5; PackageDescription: 16-Pin Thin Quad Flatpack, No Leads (T1633+5), Body 3 x 3 mm, Pitch 0.5 mm; Supplier 1: Digi-Key; Supplier Part Number 1: MAX5386LATE+-ND; Supplier 2: Mouser; Supplier Part Number 2: 700-MAX5386LATE; Applications: Low-Voltage Battery Applications, Portable Consumer; Control Interface: 3-Wire Serial SPI; Features: Ultra Low Power Consumption; Mounting Technology: Surface Mount; Code_JEDEC: MO220; ComponentLink1Description: Manufacturer URL; ComponentLink1URL: http://www.maximintegrated.com/; ComponentLink2Description: Datasheet; ComponentLink2URL: http://datasheets.maximintegrated.com/en/ds/MAX5386-MAX5388.pdf; ComponentLink3Description: Package Specification; ComponentLink3URL: http://pdfserv.maximintegrated.com/package_dwgs/21-0136.PDF
footprint MAXM-T1633+5_N (QFN, 16-Leads, Body 3x3mm, Pitch 0.5mm, Thermal Pad 1.1x1.1mm, IPC Medium Density)
footprint MAXM-T1633+5_L (QFN, 16-Leads, Body 3x3mm, Pitch 0.5mm, Thermal Pad 1.1x1.1mm, IPC High Density)
footprint MAXM-T1633+5_M (QFN, 16-Leads, Body 3x3mm, Pitch 0.5mm, Thermal Pad 1.1x1.1mm, IPC Low Density)
pins: 1 HB "Resistor B High Terminal. The voltage at HB can be higher or lower than the voltage at LB. Current can flow in to or out of HB.", 2 WB "Resistor B Wiper Terminal", 3 LB "Resistor B Low Terminal. The voltage at LB can be higher or lower than the voltage at HB. Current can flow in to or out of LB.", 4 IC (power) "Internally Connected. Connect to GND.", 5 GND (power) "Ground. Both pins must be grounded.", 6 NC "No Connection. Not internally connected.", 7 NC "No Connection. Not internally connected.", 8 ~{CS} (in) "Active-Low Chip-Select Input", 9 DIN (in) "Serial-Interface Data Input", 10 SCLK (in) "Serial-Interface Clock Input", 11 NC "No Connection. Not internally connected.", 12 VDD (power) "Power-Supply Input. Bypass VDD to GND with a 0.1uF capacitor close to the device.", 13 NC "No Connection. Not internally connected.", 14 HA "Resistor A High Terminal. The voltage at HA can be higher or lower than the voltage at LA. Current can flow in to or out of HA.", 15 WA "Resistor A Wiper Terminal", 16 LA "Resistor A Low Terminal. The voltage at LA can be higher or lower than the voltage at HA. Current can flow in to or out of LA.", 17 EP (power) "Exposed Pad (TQFN Only). Internally connected to GND. Connect to ground."

## MAX5386LATE+T
designator U?
Dual Low-Voltage Digital Potentiometer with 3-Wire Serial SPI Control Interface, Volatile, Linear Taper, 256 Steps, -40 to 125 degC, 16-pin TQFN (T1633+5), Pb-Free, Tape and Reel; PartNumber: MAX5386LATE+T; Industry Qualified: Automotive - AECQ100, Automotive - General; DatasheetVersion: Rev. 2; PackageVersion: Rev. L, 04/2012; PackageReference: T1633+5; PackageDescription: 16-Pin Thin Quad Flatpack, No Leads (T1633+5), Body 3 x 3 mm, Pitch 0.5 mm; Supplier 1: Digi-Key; Supplier Part Number 1: MAX5386LATE+T-ND; Supplier 2: Mouser; Supplier Part Number 2: 700-MAX5386LATET; Applications: Low-Voltage Battery Applications, Portable Consumer; Control Interface: 3-Wire Serial SPI; Features: Ultra Low Power Consumption; Mounting Technology: Surface Mount; Code_JEDEC: MO220; ComponentLink1Description: Manufacturer URL; ComponentLink1URL: http://www.maximintegrated.com/; ComponentLink2Description: Datasheet; ComponentLink2URL: http://datasheets.maximintegrated.com/en/ds/MAX5386-MAX5388.pdf; ComponentLink3Description: Package Specification; ComponentLink3URL: http://pdfserv.maximintegrated.com/package_dwgs/21-0136.PDF
footprint MAXM-T1633+5_N (QFN, 16-Leads, Body 3x3mm, Pitch 0.5mm, Thermal Pad 1.1x1.1mm, IPC Medium Density)
footprint MAXM-T1633+5_L (QFN, 16-Leads, Body 3x3mm, Pitch 0.5mm, Thermal Pad 1.1x1.1mm, IPC High Density)
footprint MAXM-T1633+5_M (QFN, 16-Leads, Body 3x3mm, Pitch 0.5mm, Thermal Pad 1.1x1.1mm, IPC Low Density)
pins: 1 HB "Resistor B High Terminal. The voltage at HB can be higher or lower than the voltage at LB. Current can flow in to or out of HB.", 2 WB "Resistor B Wiper Terminal", 3 LB "Resistor B Low Terminal. The voltage at LB can be higher or lower than the voltage at HB. Current can flow in to or out of LB.", 4 IC (power) "Internally Connected. Connect to GND.", 5 GND (power) "Ground. Both pins must be grounded.", 6 NC "No Connection. Not internally connected.", 7 NC "No Connection. Not internally connected.", 8 ~{CS} (in) "Active-Low Chip-Select Input", 9 DIN (in) "Serial-Interface Data Input", 10 SCLK (in) "Serial-Interface Clock Input", 11 NC "No Connection. Not internally connected.", 12 VDD (power) "Power-Supply Input. Bypass VDD to GND with a 0.1uF capacitor close to the device.", 13 NC "No Connection. Not internally connected.", 14 HA "Resistor A High Terminal. The voltage at HA can be higher or lower than the voltage at LA. Current can flow in to or out of HA.", 15 WA "Resistor A Wiper Terminal", 16 LA "Resistor A Low Terminal. The voltage at LA can be higher or lower than the voltage at HA. Current can flow in to or out of LA.", 17 EP (power) "Exposed Pad (TQFN Only). Internally connected to GND. Connect to ground."

## MAX5386LATE/V+
designator U?
Dual Low-Voltage Digital Potentiometer with 3-Wire Serial SPI Control Interface, Volatile, Linear Taper, 256 Steps, -40 to 125 degC, 16-pin TQFN (T1633+5), Pb-Free; PartNumber: MAX5386LATE/V+; Industry Qualified: Automotive - AECQ100, Automotive - General; DatasheetVersion: Rev. 2; PackageVersion: Rev. L, 04/2012; PackageReference: T1633+5; PackageDescription: 16-Pin Thin Quad Flatpack, No Leads (T1633+5), Body 3 x 3 mm, Pitch 0.5 mm; Supplier 1: Mouser; Supplier Part Number 1: N/A; Applications: Low-Voltage Battery Applications, Portable Consumer; Control Interface: 3-Wire Serial SPI; Features: Ultra Low Power Consumption; Mounting Technology: Surface Mount; Code_JEDEC: MO220; ComponentLink1Description: Manufacturer URL; ComponentLink1URL: http://www.maximintegrated.com/; ComponentLink2Description: Datasheet; ComponentLink2URL: http://datasheets.maximintegrated.com/en/ds/MAX5386-MAX5388.pdf; ComponentLink3Description: Package Specification; ComponentLink3URL: http://pdfserv.maximintegrated.com/package_dwgs/21-0136.PDF
footprint MAXM-T1633+5_N (QFN, 16-Leads, Body 3x3mm, Pitch 0.5mm, Thermal Pad 1.1x1.1mm, IPC Medium Density)
footprint MAXM-T1633+5_L (QFN, 16-Leads, Body 3x3mm, Pitch 0.5mm, Thermal Pad 1.1x1.1mm, IPC High Density)
footprint MAXM-T1633+5_M (QFN, 16-Leads, Body 3x3mm, Pitch 0.5mm, Thermal Pad 1.1x1.1mm, IPC Low Density)
pins: 1 HB "Resistor B High Terminal. The voltage at HB can be higher or lower than the voltage at LB. Current can flow in to or out of HB.", 2 WB "Resistor B Wiper Terminal", 3 LB "Resistor B Low Terminal. The voltage at LB can be higher or lower than the voltage at HB. Current can flow in to or out of LB.", 4 IC (power) "Internally Connected. Connect to GND.", 5 GND (power) "Ground. Both pins must be grounded.", 6 NC "No Connection. Not internally connected.", 7 NC "No Connection. Not internally connected.", 8 ~{CS} (in) "Active-Low Chip-Select Input", 9 DIN (in) "Serial-Interface Data Input", 10 SCLK (in) "Serial-Interface Clock Input", 11 NC "No Connection. Not internally connected.", 12 VDD (power) "Power-Supply Input. Bypass VDD to GND with a 0.1uF capacitor close to the device.", 13 NC "No Connection. Not internally connected.", 14 HA "Resistor A High Terminal. The voltage at HA can be higher or lower than the voltage at LA. Current can flow in to or out of HA.", 15 WA "Resistor A Wiper Terminal", 16 LA "Resistor A Low Terminal. The voltage at LA can be higher or lower than the voltage at HA. Current can flow in to or out of LA.", 17 EP (power) "Exposed Pad (TQFN Only). Internally connected to GND. Connect to ground."

## MAX5386LATE/V+T
designator U?
Dual Low-Voltage Digital Potentiometer with 3-Wire Serial SPI Control Interface, Volatile, Linear Taper, 256 Steps, -40 to 125 degC, 16-pin TQFN (T1633+5), Pb-Free, Tape and Reel; PartNumber: MAX5386LATE/V+T; Industry Qualified: Automotive - AECQ100, Automotive - General; DatasheetVersion: Rev. 2; PackageVersion: Rev. L, 04/2012; PackageReference: T1633+5; PackageDescription: 16-Pin Thin Quad Flatpack, No Leads (T1633+5), Body 3 x 3 mm, Pitch 0.5 mm; Supplier 1: Mouser; Supplier Part Number 1: N/A; Applications: Low-Voltage Battery Applications, Portable Consumer; Control Interface: 3-Wire Serial SPI; Features: Ultra Low Power Consumption; Mounting Technology: Surface Mount; Code_JEDEC: MO220; ComponentLink1Description: Manufacturer URL; ComponentLink1URL: http://www.maximintegrated.com/; ComponentLink2Description: Datasheet; ComponentLink2URL: http://datasheets.maximintegrated.com/en/ds/MAX5386-MAX5388.pdf; ComponentLink3Description: Package Specification; ComponentLink3URL: http://pdfserv.maximintegrated.com/package_dwgs/21-0136.PDF
footprint MAXM-T1633+5_N (QFN, 16-Leads, Body 3x3mm, Pitch 0.5mm, Thermal Pad 1.1x1.1mm, IPC Medium Density)
footprint MAXM-T1633+5_L (QFN, 16-Leads, Body 3x3mm, Pitch 0.5mm, Thermal Pad 1.1x1.1mm, IPC High Density)
footprint MAXM-T1633+5_M (QFN, 16-Leads, Body 3x3mm, Pitch 0.5mm, Thermal Pad 1.1x1.1mm, IPC Low Density)
pins: 1 HB "Resistor B High Terminal. The voltage at HB can be higher or lower than the voltage at LB. Current can flow in to or out of HB.", 2 WB "Resistor B Wiper Terminal", 3 LB "Resistor B Low Terminal. The voltage at LB can be higher or lower than the voltage at HB. Current can flow in to or out of LB.", 4 IC (power) "Internally Connected. Connect to GND.", 5 GND (power) "Ground. Both pins must be grounded.", 6 NC "No Connection. Not internally connected.", 7 NC "No Connection. Not internally connected.", 8 ~{CS} (in) "Active-Low Chip-Select Input", 9 DIN (in) "Serial-Interface Data Input", 10 SCLK (in) "Serial-Interface Clock Input", 11 NC "No Connection. Not internally connected.", 12 VDD (power) "Power-Supply Input. Bypass VDD to GND with a 0.1uF capacitor close to the device.", 13 NC "No Connection. Not internally connected.", 14 HA "Resistor A High Terminal. The voltage at HA can be higher or lower than the voltage at LA. Current can flow in to or out of HA.", 15 WA "Resistor A Wiper Terminal", 16 LA "Resistor A Low Terminal. The voltage at LA can be higher or lower than the voltage at HA. Current can flow in to or out of LA.", 17 EP (power) "Exposed Pad (TQFN Only). Internally connected to GND. Connect to ground."

## MAX5386MATE+
designator U?
Dual Low-Voltage Digital Potentiometer with 3-Wire Serial SPI Control Interface, Volatile, Linear Taper, 256 Steps, -40 to 125 degC, 16-pin TQFN (T1633+5), Pb-Free; PartNumber: MAX5386MATE+; Industry Qualified: Automotive - AECQ100, Automotive - General; DatasheetVersion: Rev. 2; PackageVersion: Rev. L, 04/2012; PackageReference: T1633+5; PackageDescription: 16-Pin Thin Quad Flatpack, No Leads (T1633+5), Body 3 x 3 mm, Pitch 0.5 mm; Supplier 1: Digi-Key; Supplier Part Number 1: MAX5386MATE+-ND; Supplier 2: Newark; Supplier Part Number 2: 11R1631; Supplier 3: Mouser; Supplier Part Number 3: 700-MAX5386MATE; Applications: Low-Voltage Battery Applications, Portable Consumer; Control Interface: 3-Wire Serial SPI; Features: Ultra Low Power Consumption; Mounting Technology: Surface Mount; Code_JEDEC: MO220; ComponentLink1Description: Manufacturer URL; ComponentLink1URL: http://www.maximintegrated.com/; ComponentLink2Description: Datasheet; ComponentLink2URL: http://datasheets.maximintegrated.com/en/ds/MAX5386-MAX5388.pdf; ComponentLink3Description: Package Specification; ComponentLink3URL: http://pdfserv.maximintegrated.com/package_dwgs/21-0136.PDF
footprint MAXM-T1633+5_N (QFN, 16-Leads, Body 3x3mm, Pitch 0.5mm, Thermal Pad 1.1x1.1mm, IPC Medium Density)
footprint MAXM-T1633+5_L (QFN, 16-Leads, Body 3x3mm, Pitch 0.5mm, Thermal Pad 1.1x1.1mm, IPC High Density)
footprint MAXM-T1633+5_M (QFN, 16-Leads, Body 3x3mm, Pitch 0.5mm, Thermal Pad 1.1x1.1mm, IPC Low Density)
pins: 1 HB "Resistor B High Terminal. The voltage at HB can be higher or lower than the voltage at LB. Current can flow in to or out of HB.", 2 WB "Resistor B Wiper Terminal", 3 LB "Resistor B Low Terminal. The voltage at LB can be higher or lower than the voltage at HB. Current can flow in to or out of LB.", 4 IC (power) "Internally Connected. Connect to GND.", 5 GND (power) "Ground. Both pins must be grounded.", 6 NC "No Connection. Not internally connected.", 7 NC "No Connection. Not internally connected.", 8 ~{CS} (in) "Active-Low Chip-Select Input", 9 DIN (in) "Serial-Interface Data Input", 10 SCLK (in) "Serial-Interface Clock Input", 11 NC "No Connection. Not internally connected.", 12 VDD (power) "Power-Supply Input. Bypass VDD to GND with a 0.1uF capacitor close to the device.", 13 NC "No Connection. Not internally connected.", 14 HA "Resistor A High Terminal. The voltage at HA can be higher or lower than the voltage at LA. Current can flow in to or out of HA.", 15 WA "Resistor A Wiper Terminal", 16 LA "Resistor A Low Terminal. The voltage at LA can be higher or lower than the voltage at HA. Current can flow in to or out of LA.", 17 EP (power) "Exposed Pad (TQFN Only). Internally connected to GND. Connect to ground."

## MAX5386MATE+T
designator U?
Dual Low-Voltage Digital Potentiometer with 3-Wire Serial SPI Control Interface, Volatile, Linear Taper, 256 Steps, -40 to 125 degC, 16-pin TQFN (T1633+5), Pb-Free, Tape and Reel; PartNumber: MAX5386MATE+T; Industry Qualified: Automotive - AECQ100, Automotive - General; DatasheetVersion: Rev. 2; PackageVersion: Rev. L, 04/2012; PackageReference: T1633+5; PackageDescription: 16-Pin Thin Quad Flatpack, No Leads (T1633+5), Body 3 x 3 mm, Pitch 0.5 mm; Supplier 1: Digi-Key; Supplier Part Number 1: MAX5386MATE+T-ND; Supplier 2: Mouser; Supplier Part Number 2: 700-MAX5386MATET; Applications: Low-Voltage Battery Applications, Portable Consumer; Control Interface: 3-Wire Serial SPI; Features: Ultra Low Power Consumption; Mounting Technology: Surface Mount; Code_JEDEC: MO220; ComponentLink1Description: Manufacturer URL; ComponentLink1URL: http://www.maximintegrated.com/; ComponentLink2Description: Datasheet; ComponentLink2URL: http://datasheets.maximintegrated.com/en/ds/MAX5386-MAX5388.pdf; ComponentLink3Description: Package Specification; ComponentLink3URL: http://pdfserv.maximintegrated.com/package_dwgs/21-0136.PDF
footprint MAXM-T1633+5_N (QFN, 16-Leads, Body 3x3mm, Pitch 0.5mm, Thermal Pad 1.1x1.1mm, IPC Medium Density)
footprint MAXM-T1633+5_L (QFN, 16-Leads, Body 3x3mm, Pitch 0.5mm, Thermal Pad 1.1x1.1mm, IPC High Density)
footprint MAXM-T1633+5_M (QFN, 16-Leads, Body 3x3mm, Pitch 0.5mm, Thermal Pad 1.1x1.1mm, IPC Low Density)
pins: 1 HB "Resistor B High Terminal. The voltage at HB can be higher or lower than the voltage at LB. Current can flow in to or out of HB.", 2 WB "Resistor B Wiper Terminal", 3 LB "Resistor B Low Terminal. The voltage at LB can be higher or lower than the voltage at HB. Current can flow in to or out of LB.", 4 IC (power) "Internally Connected. Connect to GND.", 5 GND (power) "Ground. Both pins must be grounded.", 6 NC "No Connection. Not internally connected.", 7 NC "No Connection. Not internally connected.", 8 ~{CS} (in) "Active-Low Chip-Select Input", 9 DIN (in) "Serial-Interface Data Input", 10 SCLK (in) "Serial-Interface Clock Input", 11 NC "No Connection. Not internally connected.", 12 VDD (power) "Power-Supply Input. Bypass VDD to GND with a 0.1uF capacitor close to the device.", 13 NC "No Connection. Not internally connected.", 14 HA "Resistor A High Terminal. The voltage at HA can be higher or lower than the voltage at LA. Current can flow in to or out of HA.", 15 WA "Resistor A Wiper Terminal", 16 LA "Resistor A Low Terminal. The voltage at LA can be higher or lower than the voltage at HA. Current can flow in to or out of LA.", 17 EP (power) "Exposed Pad (TQFN Only). Internally connected to GND. Connect to ground."

## MAX5386MATE/V+
designator U?
Dual Low-Voltage Digital Potentiometer with 3-Wire Serial SPI Control Interface, Volatile, Linear Taper, 256 Steps, -40 to 125 degC, 16-pin TQFN (T1633+5), Pb-Free; PartNumber: MAX5386MATE/V+; Industry Qualified: Automotive - AECQ100, Automotive - General; DatasheetVersion: Rev. 2; PackageVersion: Rev. L, 04/2012; PackageReference: T1633+5; PackageDescription: 16-Pin Thin Quad Flatpack, No Leads (T1633+5), Body 3 x 3 mm, Pitch 0.5 mm; Supplier 1: Mouser; Supplier Part Number 1: N/A; Applications: Low-Voltage Battery Applications, Portable Consumer; Control Interface: 3-Wire Serial SPI; Features: Ultra Low Power Consumption; Mounting Technology: Surface Mount; Code_JEDEC: MO220; ComponentLink1Description: Manufacturer URL; ComponentLink1URL: http://www.maximintegrated.com/; ComponentLink2Description: Datasheet; ComponentLink2URL: http://datasheets.maximintegrated.com/en/ds/MAX5386-MAX5388.pdf; ComponentLink3Description: Package Specification; ComponentLink3URL: http://pdfserv.maximintegrated.com/package_dwgs/21-0136.PDF
footprint MAXM-T1633+5_N (QFN, 16-Leads, Body 3x3mm, Pitch 0.5mm, Thermal Pad 1.1x1.1mm, IPC Medium Density)
footprint MAXM-T1633+5_L (QFN, 16-Leads, Body 3x3mm, Pitch 0.5mm, Thermal Pad 1.1x1.1mm, IPC High Density)
footprint MAXM-T1633+5_M (QFN, 16-Leads, Body 3x3mm, Pitch 0.5mm, Thermal Pad 1.1x1.1mm, IPC Low Density)
pins: 1 HB "Resistor B High Terminal. The voltage at HB can be higher or lower than the voltage at LB. Current can flow in to or out of HB.", 2 WB "Resistor B Wiper Terminal", 3 LB "Resistor B Low Terminal. The voltage at LB can be higher or lower than the voltage at HB. Current can flow in to or out of LB.", 4 IC (power) "Internally Connected. Connect to GND.", 5 GND (power) "Ground. Both pins must be grounded.", 6 NC "No Connection. Not internally connected.", 7 NC "No Connection. Not internally connected.", 8 ~{CS} (in) "Active-Low Chip-Select Input", 9 DIN (in) "Serial-Interface Data Input", 10 SCLK (in) "Serial-Interface Clock Input", 11 NC "No Connection. Not internally connected.", 12 VDD (power) "Power-Supply Input. Bypass VDD to GND with a 0.1uF capacitor close to the device.", 13 NC "No Connection. Not internally connected.", 14 HA "Resistor A High Terminal. The voltage at HA can be higher or lower than the voltage at LA. Current can flow in to or out of HA.", 15 WA "Resistor A Wiper Terminal", 16 LA "Resistor A Low Terminal. The voltage at LA can be higher or lower than the voltage at HA. Current can flow in to or out of LA.", 17 EP (power) "Exposed Pad (TQFN Only). Internally connected to GND. Connect to ground."

## MAX5386MATE/V+T
designator U?
Dual Low-Voltage Digital Potentiometer with 3-Wire Serial SPI Control Interface, Volatile, Linear Taper, 256 Steps, -40 to 125 degC, 16-pin TQFN (T1633+5), Pb-Free, Tape and Reel; PartNumber: MAX5386MATE/V+T; Industry Qualified: Automotive - AECQ100, Automotive - General; DatasheetVersion: Rev. 2; PackageVersion: Rev. L, 04/2012; PackageReference: T1633+5; PackageDescription: 16-Pin Thin Quad Flatpack, No Leads (T1633+5), Body 3 x 3 mm, Pitch 0.5 mm; Supplier 1: Mouser; Supplier Part Number 1: N/A; Applications: Low-Voltage Battery Applications, Portable Consumer; Control Interface: 3-Wire Serial SPI; Features: Ultra Low Power Consumption; Mounting Technology: Surface Mount; Code_JEDEC: MO220; ComponentLink1Description: Manufacturer URL; ComponentLink1URL: http://www.maximintegrated.com/; ComponentLink2Description: Datasheet; ComponentLink2URL: http://datasheets.maximintegrated.com/en/ds/MAX5386-MAX5388.pdf; ComponentLink3Description: Package Specification; ComponentLink3URL: http://pdfserv.maximintegrated.com/package_dwgs/21-0136.PDF
footprint MAXM-T1633+5_N (QFN, 16-Leads, Body 3x3mm, Pitch 0.5mm, Thermal Pad 1.1x1.1mm, IPC Medium Density)
footprint MAXM-T1633+5_L (QFN, 16-Leads, Body 3x3mm, Pitch 0.5mm, Thermal Pad 1.1x1.1mm, IPC High Density)
footprint MAXM-T1633+5_M (QFN, 16-Leads, Body 3x3mm, Pitch 0.5mm, Thermal Pad 1.1x1.1mm, IPC Low Density)
pins: 1 HB "Resistor B High Terminal. The voltage at HB can be higher or lower than the voltage at LB. Current can flow in to or out of HB.", 2 WB "Resistor B Wiper Terminal", 3 LB "Resistor B Low Terminal. The voltage at LB can be higher or lower than the voltage at HB. Current can flow in to or out of LB.", 4 IC (power) "Internally Connected. Connect to GND.", 5 GND (power) "Ground. Both pins must be grounded.", 6 NC "No Connection. Not internally connected.", 7 NC "No Connection. Not internally connected.", 8 ~{CS} (in) "Active-Low Chip-Select Input", 9 DIN (in) "Serial-Interface Data Input", 10 SCLK (in) "Serial-Interface Clock Input", 11 NC "No Connection. Not internally connected.", 12 VDD (power) "Power-Supply Input. Bypass VDD to GND with a 0.1uF capacitor close to the device.", 13 NC "No Connection. Not internally connected.", 14 HA "Resistor A High Terminal. The voltage at HA can be higher or lower than the voltage at LA. Current can flow in to or out of HA.", 15 WA "Resistor A Wiper Terminal", 16 LA "Resistor A Low Terminal. The voltage at LA can be higher or lower than the voltage at HA. Current can flow in to or out of LA.", 17 EP (power) "Exposed Pad (TQFN Only). Internally connected to GND. Connect to ground."